# Altium footprint library BLM15AG601SN1D.PcbLib: 3 footprints
Each footprint in its own frame and in the unit in brackets; x right, y up, seen from the top. Pads: shape width x height; smd on the part's side, far side on the other; paste and mask are expansions set on the pad; w line width, h text height; cw(c..) or ccw(c..) is an arc to the next point about the centre after c.
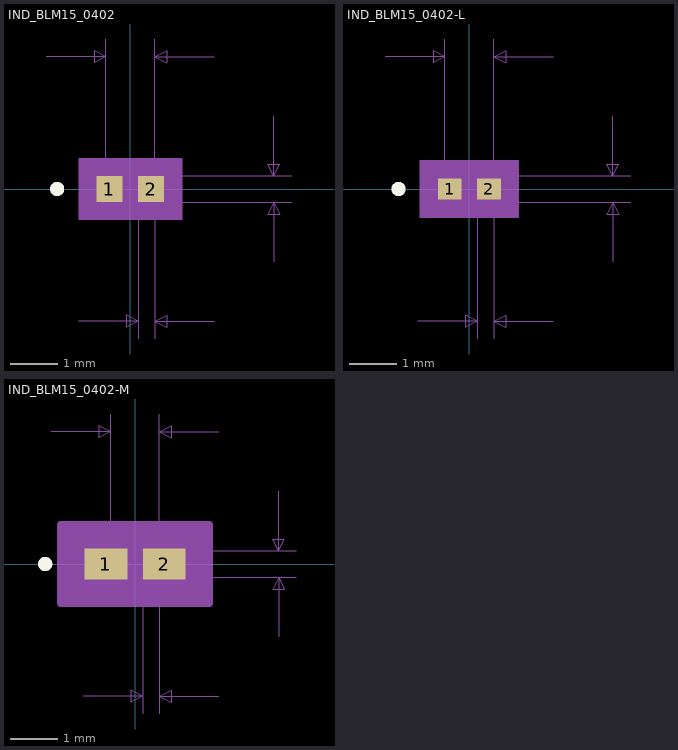
[diagram p0: the footprints below, top view; thin cyan lines are the x and y axes]

## IND_BLM15_0402 [mil]
pads (2):
  rect 22x22 smd: 1(-17.5,0) 2(17.5,0)
Top Overlay:
  circle w6: c-61.5,0 r3
Mechanical 5:
  region: 43.5,-26 -43.5,-26 -43.5,26 43.5,26
Mechanical 7:
  lines w1: -70.5,111 -20.5,111 ; -43.5,-111 6.5,-111 ; -20.5,0 -20.5,126 ; 0,-11 135.5,-11 ; 0,11 135.5,11 ; 6.5,-126 6.5,0 ; 20.5,-126 20.5,0 20.5,126 ; 70.5,-111 20.5,-111 ; 70.5,111 20.5,111 ; 120.5,-61 120.5,-11 ; 120.5,61 120.5,11 ; -20.5,111 -30.5,116 -30.5,106 -20.5,111 ; 6.5,-111 -3.5,-106 -3.5,-116 6.5,-111 ; 20.5,-111 30.5,-106 30.5,-116 20.5,-111 ; 20.5,111 30.5,116 30.5,106 20.5,111 ; 120.5,-11 115.5,-21 125.5,-21 120.5,-11 ; 120.5,11 115.5,21 125.5,21 120.5,11
  text "Default Padstyle: RX22Y22D0T" at -350,-281 h50
  text "Alt 1 Padstyle: OX60Y90D30P" at -337.5,-341 h50
  text "Alt 2 Padstyle: OX90Y60D30P" at -337.5,-401 h50
  text "0.022in/0.559mm" at 140.5,-12.5 h25
  text "0.041in/1.041mm" at -93.75,131 h25
  text "0.014in/0.356mm" at -80.25,-156 h25
Mechanical 13:
  circle w0: c-12.5,0 r3
  lines w1: -20.5,-11 -20.5,11 ; -20.5,-11 -6.5,-11 -6.5,11 -20.5,11 ; -20.5,-11 20.5,-11 ; -20.5,-11 -20.5,11 ; -20.5,11 20.5,11 ; 20.5,-11 6.5,-11 6.5,11 20.5,11 ; 20.5,-11 20.5,11 ; 20.5,-11 20.5,11
Mechanical 15:
  region: 38.5,-21 -38.5,-21 -38.5,21 38.5,21
  lines w6: -38.5,-21 -38.5,21 38.5,21 38.5,-21 -38.5,-21
3D body: height 10, standoff 0, extent 0,0 10,10

## IND_BLM15_0402-L [mil]
pads (2):
  rect 20x18 smd paste+0 mask+0: 1(-16.5,0) 2(16.5,0)
Top Overlay:
  circle w6: c-59.5,0 r3
Mechanical 5:
  region: 41.5,-24 -41.5,-24 -41.5,24 41.5,24
Mechanical 7:
  lines w1: -70.5,111 -20.5,111 ; -43.5,-111 6.5,-111 ; -20.5,0 -20.5,126 ; 0,-11 135.5,-11 ; 0,11 135.5,11 ; 6.5,-126 6.5,0 ; 20.5,-126 20.5,0 20.5,126 ; 70.5,-111 20.5,-111 ; 70.5,111 20.5,111 ; 120.5,-61 120.5,-11 ; 120.5,61 120.5,11 ; -20.5,111 -30.5,116 -30.5,106 -20.5,111 ; 6.5,-111 -3.5,-106 -3.5,-116 6.5,-111 ; 20.5,-111 30.5,-106 30.5,-116 20.5,-111 ; 20.5,111 30.5,116 30.5,106 20.5,111 ; 120.5,-11 115.5,-21 125.5,-21 120.5,-11 ; 120.5,11 115.5,21 125.5,21 120.5,11
  text "Default Padstyle: RX20Y18D0T" at -350,-279 h50
  text "Alt 1 Padstyle: OX60Y90D30P" at -337.5,-339 h50
  text "Alt 2 Padstyle: OX90Y60D30P" at -337.5,-399 h50
  text "0.022in/0.559mm" at 140.5,-12.5 h25
  text "0.041in/1.041mm" at -93.75,131 h25
  text "0.014in/0.356mm" at -80.25,-156 h25
Mechanical 13:
  circle w0: c-11.5,0 r3
  lines w1: -20.5,-11 -20.5,11 ; -20.5,-11 -6.5,-11 -6.5,11 -20.5,11 ; -20.5,-11 20.5,-11 ; -20.5,-11 -20.5,11 ; -20.5,11 20.5,11 ; 20.5,-11 6.5,-11 6.5,11 20.5,11 ; 20.5,-11 20.5,11 ; 20.5,-11 20.5,11
Mechanical 15:
  region: 30.5,-13 -30.5,-13 -30.5,13 30.5,13
  lines w6: -30.5,-13 -30.5,13 30.5,13 30.5,-13 -30.5,-13
3D body: height 10, standoff 0, extent 0,0 10,10

## IND_BLM15_0402-M [mil]
pads (2):
  rect 36x26 smd paste+0 mask+0: 1(-24.5,0) 2(24.5,0)
Top Overlay:
  circle w6: c-75.5,0 r3
Mechanical 5:
  region: 57.5,-28 -57.5,-28 -57.5,28 57.5,28
Mechanical 7:
  lines w1: -70.5,111 -20.5,111 ; -43.5,-111 6.5,-111 ; -20.5,0 -20.5,126 ; 0,-11 135.5,-11 ; 0,11 135.5,11 ; 6.5,-126 6.5,0 ; 20.5,-126 20.5,0 20.5,126 ; 70.5,-111 20.5,-111 ; 70.5,111 20.5,111 ; 120.5,-61 120.5,-11 ; 120.5,61 120.5,11 ; -20.5,111 -30.5,116 -30.5,106 -20.5,111 ; 6.5,-111 -3.5,-106 -3.5,-116 6.5,-111 ; 20.5,-111 30.5,-106 30.5,-116 20.5,-111 ; 20.5,111 30.5,116 30.5,106 20.5,111 ; 120.5,-11 115.5,-21 125.5,-21 120.5,-11 ; 120.5,11 115.5,21 125.5,21 120.5,11
  text "Default Padstyle: RX36Y26D0T" at -350,-283 h50
  text "Alt 1 Padstyle: OX60Y90D30P" at -337.5,-343 h50
  text "Alt 2 Padstyle: OX90Y60D30P" at -337.5,-403 h50
  text "0.022in/0.559mm" at 140.5,-12.5 h25
  text "0.041in/1.041mm" at -93.75,131 h25
  text "0.014in/0.356mm" at -80.25,-156 h25
Mechanical 13:
  circle w0: c-19.5,0 r3
  lines w1: -20.5,-11 -20.5,11 ; -20.5,-11 -6.5,-11 -6.5,11 -20.5,11 ; -20.5,-11 20.5,-11 ; -20.5,-11 -20.5,11 ; -20.5,11 20.5,11 ; 20.5,-11 6.5,-11 6.5,11 20.5,11 ; 20.5,-11 20.5,11 ; 20.5,-11 20.5,11
Mechanical 15:
  region: 62.5,-33 -62.5,-33 -62.5,33 62.5,33
  lines w6: -62.5,-33 -62.5,33 62.5,33 62.5,-33 -62.5,-33
3D body: height 10, standoff 0, extent 0,0 10,10